# Altium schematic symbol library CAP_NOPOL.SchLib: 1 symbol
Pins are listed as number, name and electrical type; pins without a type are passive.

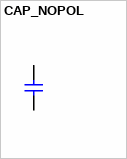
[diagram p0: symbol CAP_NOPOL]

## CAP_NOPOL
designator C?  (value not drawn)
pins: 1, 2
1 alternate drawing of the same symbol